# Altium schematic symbol library EFR32MG12_BG125.SchLib: 1 symbol
Pins are listed as number, name and electrical type; pins without a type are passive.

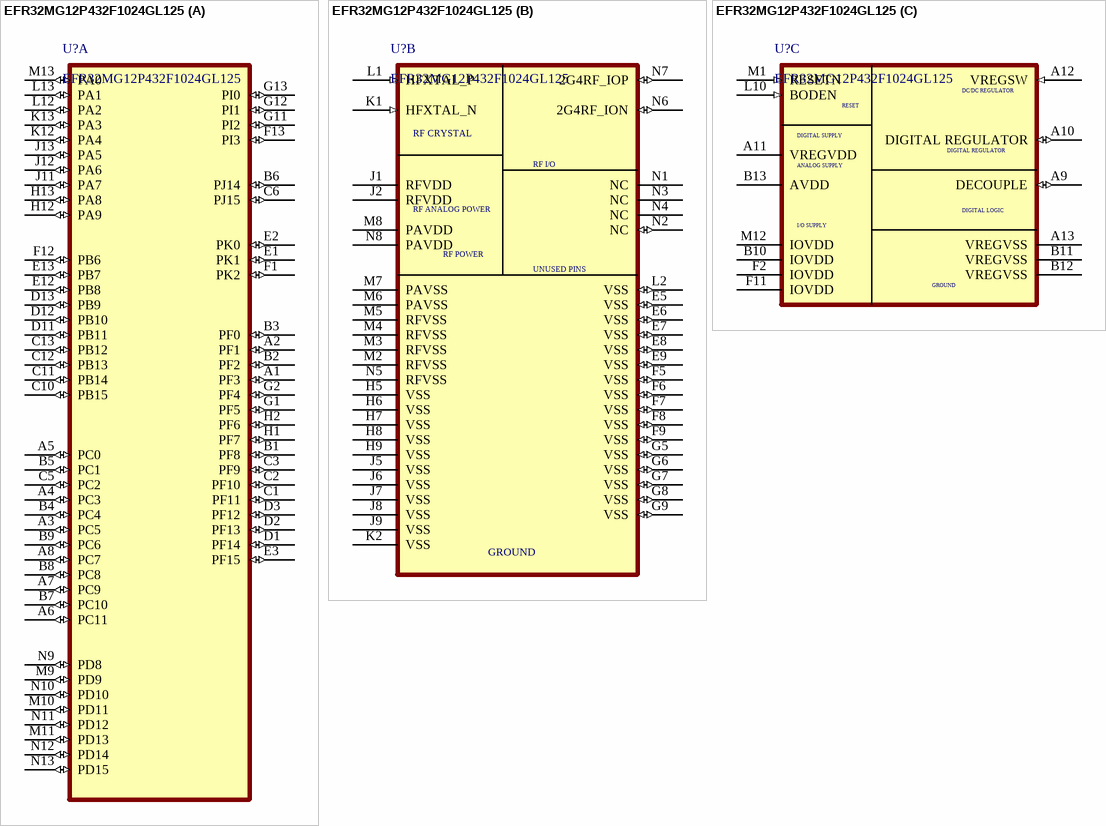
[diagram p0: symbol EFR32MG12P432F1024GL125]

## EFR32MG12P432F1024GL125
designator U?
footprint PCBComponent_1
footprint PCBComponent_1
part A pins: A1 PF3 (io), A2 PF1 (io), A3 PC5 (io), A4 PC3 (io), A5 PC0 (io), A6 PC11 (io), A7 PC9 (io), A8 PC7 (io), B1 PF8 (io), B2 PF2 (io), B3 PF0 (io), B4 PC4 (io), B5 PC1 (io), B6 PJ14 (io), B7 PC10 (io), B8 PC8 (io), B9 PC6 (io), C1 PF11 (io), C2 PF10 (io), C3 PF9 (io), C5 PC2 (io), C6 PJ15 (io), C10 PB15 (io), C11 PB14 (io), C12 PB13 (io), C13 PB12 (io), D1 PF14 (io), D2 PF13 (io), D3 PF12 (io), D11 PB11 (io), D12 PB10 (io), D13 PB9 (io), E1 PK1 (io), E2 PK0 (io), E3 PF15 (io), E12 PB8 (io), E13 PB7 (io), F1 PK2 (io), F12 PB6 (io), F13 PI3 (io), G1 PF5 (io), G2 PF4 (io), G11 PI2 (io), G12 PI1 (io), G13 PI0 (io), H1 PF7 (io), H2 PF6 (io), H12 PA9 (io), H13 PA8 (io), J11 PA7 (io), J12 PA6 (io), J13 PA5 (io), K12 PA4 (io), K13 PA3 (io), L12 PA2 (io), L13 PA1 (io), M9 PD9 (io), M10 PD11 (io), M11 PD13 (io), M13 PA0 (io), N9 PD8 (io), N10 PD10 (io), N11 PD12 (io), N12 PD14 (io), N13 PD15 (io)
part B pins: E5 VSS (io), E6 VSS (io), E7 VSS (io), E8 VSS (io), E9 VSS (io), F5 VSS (io), F6 VSS (io), F7 VSS (io), F8 VSS (io), F9 VSS (io), G5 VSS (io), G6 VSS (io), G7 VSS (io), G8 VSS (io), G9 VSS (io), H5 VSS (power), H6 VSS (power), H7 VSS (power), H8 VSS (power), H9 VSS (power), J1 RFVDD (power), J2 RFVDD (power), J5 VSS (power), J6 VSS (power), J7 VSS (power), J8 VSS (power), J9 VSS (power), K1 HFXTAL_N (in), K2 VSS (power), L1 HFXTAL_P (in), L2 VSS (io), M2 RFVSS (power), M3 RFVSS (power), M4 RFVSS (power), M5 RFVSS (power), M6 PAVSS (power), M7 PAVSS (power), M8 PAVDD (power), N1 NC, N2 NC (io), N3 NC, N4 NC, N5 RFVSS (power), N6 2G4RF_ION (io), N7 2G4RF_IOP (io), N8 PAVDD (power)
part C pins: A9 DECOUPLE (io), A10 DIGITAL REGULATOR (io), A11 VREGVDD (power), A12 VREGSW (in), A13 VREGVSS (power), B10 IOVDD (power), B11 VREGVSS (power), B12 VREGVSS (power), B13 AVDD (power), F2 IOVDD (power), F11 IOVDD (power), L10 BODEN (in), M1 RESETN (in), M12 IOVDD (power)
part B text: RF CRYSTAL; RF I/O; RF ANALOG POWER; RF POWER; UNUSED PINS; GROUND
part C text: DC/DC REGULATOR; RESET; DIGITAL SUPPLY; ANALOG SUPPLY; DIGITAL LOGIC; I/O SUPPLY; GROUND